# EAGLE library part STECK-32POL-W-HARTING (library Winkelstecker-32pol-Harting)
Winkelstecker-32pol-Harting
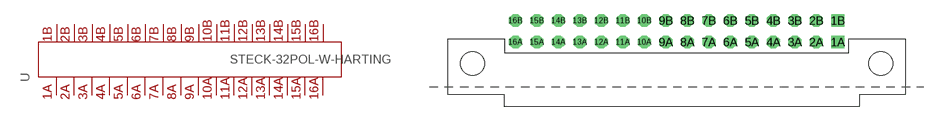
[diagram p0: symbol with the pads of STECK-32POL-W-HARTING; footprint STECK-32POL-W-HARTING]

Designator prefix -

## STECK-32POL-W-HARTING  [STECK-32POL-W-HARTING]
1A  1A
1B  1B
2A  2A
2B  2B
3A  3A
3B  3B
4A  4A
4B  4B
5A  5A
5B  5B
6A  6A
6B  6B
7A  7A
7B  7B
8A  8A
8B  8B
9A  9A
9B  9B
10A  10A
10B  10B
11A  11A
11B  11B
12A  12A
12B  12B
13A  13A
13B  13B
14A  14A
14B  14B
15A  15A
15B  15B
16A  16A
16B  16B

## Footprint STECK-32POL-W-HARTING (pad centres in mm)
Winkelstecker-32pol-Harting
drill 1 square: 1A 19.05,-1.27; 1B 19.05,1.27
drill 1 octagon: 2A 16.51,-1.27; 2B 16.51,1.27; 3A 13.97,-1.27; 3B 13.97,1.27; 4A 11.43,-1.27; 4B 11.43,1.27; 5A 8.89,-1.27; 5B 8.89,1.27; 6A 6.35,-1.27; 6B 6.35,1.27; 7A 3.81,-1.27; 7B 3.81,1.27; 8A 1.27,-1.27; 8B 1.27,1.27; 9A -1.27,-1.27; 9B -1.27,1.27; 10A -3.81,-1.27; 10B -3.81,1.27; 11A -6.35,-1.27; 11B -6.35,1.27; 12A -8.89,-1.27; 12B -8.89,1.27; 13A -11.43,-1.27; 13B -11.43,1.27; 14A -13.97,-1.27; 14B -13.97,1.27; 15A -16.51,-1.27; 15B -16.51,1.27; 16A -19.05,-1.27; 16B -19.05,1.27
hole 2.8 at -24.13,-3.81
hole 2.8 at 24.13,-3.81